# EAGLE library part SILENTSTEPSTICK (library watterott)
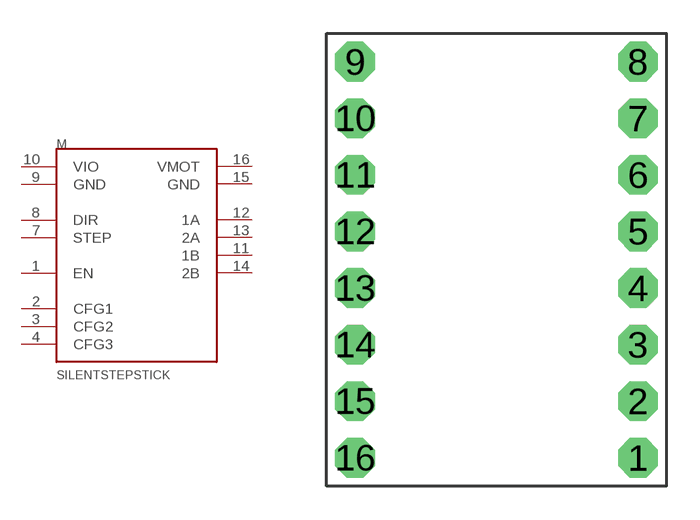
[diagram p0: symbol with the pads of SILENTSTEPSTICK; footprint SILENTSTEPSTICK]

Designator prefix M

## SILENTSTEPSTICK  [SILENTSTEPSTICK]
1  EN  in
2  CFG1  in
3  CFG2  in
4  CFG3  in
7  STEP  in
8  DIR  in
9  GND  pwr
10  VIO  pwr
11  1B  out
12  1A  out
13  2A  out
14  2B  out
15  GND  pwr
16  VMOT  pwr

## Footprint SILENTSTEPSTICK (pad centres in mm)
drill 1 pad 1.778 octagon: 1 12.7,0; 2 12.7,2.54; 3 12.7,5.08; 4 12.7,7.62; 5 12.7,10.16; 6 12.7,12.7; 7 12.7,15.24; 8 12.7,17.78; 9 0,17.78; 10 0,15.24; 11 0,12.7; 12 0,10.16; 13 0,7.62; 14 0,5.08; 15 0,2.54; 16 0,0